# EAGLE library part HMC6343 (library Kas-Sensors)
HMC6343 3-Axis Compass with Algorithms from Honeywell
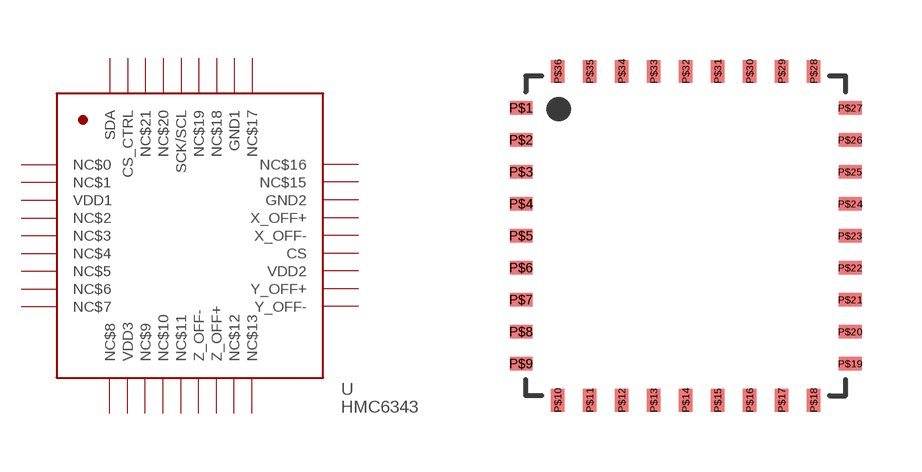
[diagram p18: symbol with the pads of LCC-36(9X9); footprint LCC-36(9X9)]

Designator prefix U

## HMC6343  [LCC-36(9X9)]
P$1  NC$0  nc
P$2  NC$1  nc
P$3  VDD1
P$4  NC$2  nc
P$5  NC$3  nc
P$6  NC$4  nc
P$7  NC$5  nc
P$8  NC$6  nc
P$9  NC$7  nc
P$10  NC$8  nc
P$11  VDD3
P$12  NC$9  nc
P$13  NC$10  nc
P$14  NC$11  nc
P$15  Z_OFF-
P$16  Z_OFF+
P$17  NC$12  nc
P$18  NC$13  nc
P$19  Y_OFF-
P$20  Y_OFF+
P$21  VDD2
P$22  CS
P$23  X_OFF-
P$24  X_OFF+
P$25  GND2
P$26  NC$15  nc
P$27  NC$16  nc
P$28  NC$17  nc
P$29  GND1
P$30  NC$18  nc
P$31  NC$19  nc
P$32  SCK/SCL
P$33  NC$20  nc
P$34  NC$21  nc
P$35  CS_CTRL
P$36  SDA

## Footprint LCC-36(9X9) (pad centres in mm)
smd 0.57 x 0.34: P$1 -4.115,3.2; P$2 -4.115,2.4; P$3 -4.115,1.6; P$4 -4.115,0.8; P$5 -4.115,0; P$6 -4.115,-0.8; P$7 -4.115,-1.6; P$8 -4.115,-2.4; P$9 -4.115,-3.2; P$19 4.115,-3.2; P$20 4.115,-2.4; P$21 4.115,-1.6; P$22 4.115,-0.8; P$23 4.115,0; P$24 4.115,0.8; P$25 4.115,1.6; P$26 4.115,2.4; P$27 4.115,3.2
smd 0.34 x 0.57: P$10 -3.2,-4.115; P$11 -2.4,-4.115; P$12 -1.6,-4.115; P$13 -0.8,-4.115; P$14 0,-4.115; P$15 0.8,-4.115; P$16 1.6,-4.115; P$17 2.4,-4.115; P$18 3.2,-4.115; P$28 3.2,4.115; P$29 2.4,4.115; P$30 1.6,4.115; P$31 0.8,4.115; P$32 0,4.115; P$33 -0.8,4.115; P$34 -1.6,4.115; P$35 -2.4,4.115; P$36 -3.2,4.115